# Altium footprint library INDUCTOR.PcbLib: 5 footprints
Each footprint in its own frame and in the unit in brackets; x right, y up, seen from the top. Pads: shape width x height; smd on the part's side, far side on the other; paste and mask are expansions set on the pad; w line width, h text height; cw(c..) or ccw(c..) is an arc to the next point about the centre after c.
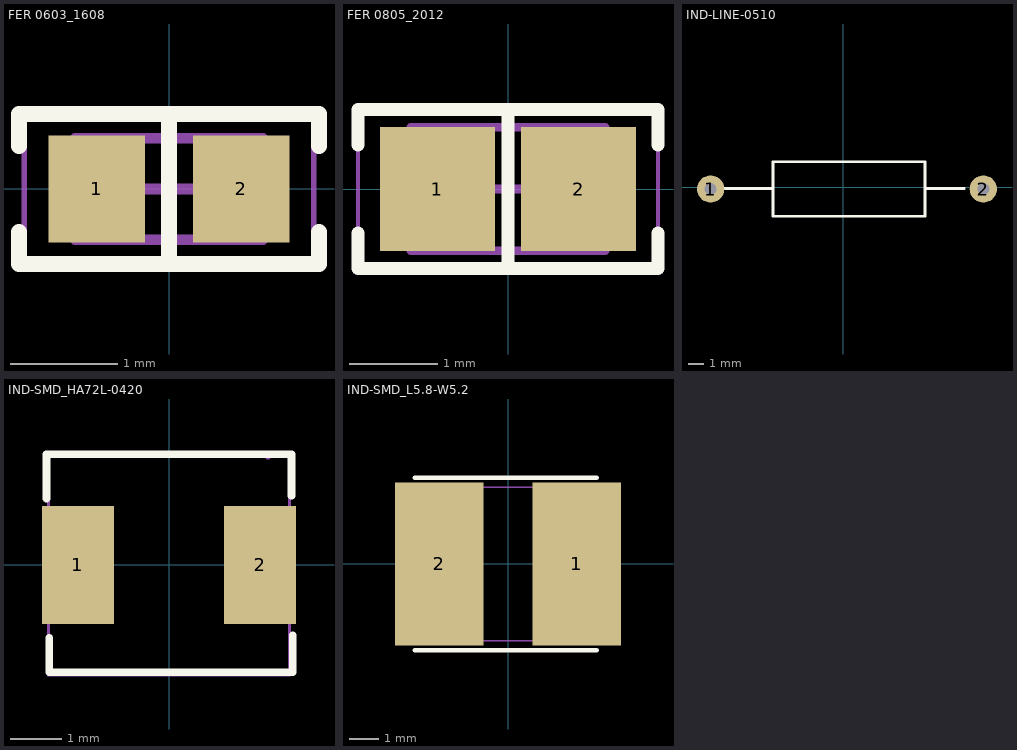
[diagram p0: the footprints below, top view; thin cyan lines are the x and y axes]

## FER 0603_1608 [mm] "Chip Ferrite, 2-Leads, Body 1.60x0.80mm, IPC Medium Density"
height 0.89
pads (2):
  rect 0.9x1 smd: 1(-0.675,0) 2(0.675,0)
Top Overlay:
  lines w0.15: -1.4,-0.4 -1.4,-0.7 1.4,-0.7 1.4,-0.4 ; -1.4,0.4 -1.4,0.7 1.4,0.7 1.4,0.4 ; 0,-0.7 0,0.7
Mechanical 13:
  lines w0.1: -0.875,-0.475 -0.875,0.475 0.875,0.475 0.875,-0.475 -0.875,-0.475
Mechanical 15:
  lines w0.05: -1.35,-0.75 -1.35,0.75 1.35,0.75 1.35,-0.75 -1.35,-0.75
  lines w0.1: -0.475,0 0.475,0 ; 0,-0.475 0,0.475
Mechanical 29:
  text "'.Designator'" at -1.424,-0.216 h0.5
3D body "FER 0603.STEP": height 0.82, standoff 0, extent -0.8,-0.412 0.8,0.412

## FER 0805_2012 [mm] "Chip Ferrite, 2-Leads, Body 2.00x1.20mm, IPC Medium Density"
height 1.15
pads (2):
  rect 1.3x1.4 smd: 1(-0.8,0) 2(0.8,0)
Top Overlay:
  lines w0.15: -1.7,-0.5 -1.7,-0.9 1.7,-0.9 1.7,-0.5 ; -1.7,0.5 -1.7,0.9 1.7,0.9 1.7,0.5 ; 0,-0.9 0,0.9
Mechanical 13:
  lines w0.1: -1.1,-0.7 1.1,-0.7 1.1,0.7 -1.1,0.7 -1.1,-0.7
Mechanical 15:
  lines w0.05: -1.7,-0.95 1.7,-0.95 1.7,0.95 -1.7,0.95 -1.7,-0.95
  lines w0.1: -0.5,0 0.5,0 ; 0,-0.5 0,0.5
Mechanical 29:
  text "'.Designator'" at -1.526,-0.14 h0.5
3D body "FER 0805.STEP": height 1.26, standoff -0.02, extent -1,-0.637 1,0.637

## IND-LINE-0510 [mil]
height 100
pads (2):
  round 70 hole 31: 1(-340,-5) 2(360,-5)
Top Overlay:
  lines w7: -313,-4 -180,-4 ; 210,-4 311,-4 ; -180,-75 210,-75 210,65 -180,65 -180,-75
Mechanical 29:
  text "'.Designator'" at -204,-18.01 h60
3D body "SW3dPS-Resistor 5-band.STEP": height 142, standoff -125, extent -335.74,-70 365.75,62

## IND-SMD_HA72L-0420 [mm]
pads (2):
  rect 1.4x2.3 smd: 1(-1.775,0) 2(1.775,0)
Top Overlay:
  lines w0.152: -2.388,1.295 -2.388,2.159 2.388,2.159 2.388,1.346 ; -2.337,-1.422 -2.337,-2.095 2.413,-2.095 2.413,-1.816 2.413,-1.372
Mechanical 15:
  region: -1.562,-0.775 -1.562,0.725 -2.362,0.725 -2.362,-0.775
  region: 1.499,-0.75 1.499,0.75 2.299,0.75 2.299,-0.75
  region: 1.99,2.124 1.99,2.1 1.955,2.064 1.906,2.064 1.87,2.1 1.87,2.124 1.87,2.149 1.906,2.184 1.955,2.184 1.99,2.149
  lines w0.051: -2.35,-2.15 2.35,-2.15 2.35,2.15 -2.35,2.15 -2.35,-2.15
Mechanical 29:
  text "'.Designator'" at -2.515,-0.584 h1.52
3D body "ha72l-0420xxlf.stp": height 1.95, standoff 0, extent -2.199,-1.999 2.251,2.051

## IND-SMD_L5.8-W5.2 [mm]
pads (2):
  rect 3x5.5 smd paste-100 mask+0.05: 1(2.325,0) 2(-2.325,0)
Top Overlay:
  lines w0.152: -3.15,-2.921 3.002,-2.921 ; -3.15,2.921 3.002,2.921
Top Paste:
  region: 2.998,2.6 2.998,-2.6 0.798,-2.6 0.798,2.6
  region: -2.947,-2.6 -2.947,2.6 -0.747,2.6 -0.747,-2.6
Mechanical 15:
  region: -0.875,-2.6 -1.475,-2.6 -1.975,-2.2 -2.375,-1.7 -2.775,-0.9 -2.875,0 -2.775,0.9 -2.375,1.7 -2.075,2.1 -1.475,2.6 -0.875,2.6
  region: 0.925,2.6 1.525,2.6 2.025,2.2 2.425,1.7 2.825,0.9 2.925,0 2.825,-0.9 2.425,-1.7 2.125,-2.1 1.525,-2.6 0.925,-2.6
  region: 2.985,-2.6 2.985,-2.625 2.95,-2.66 2.9,-2.66 2.865,-2.625 2.865,-2.6 2.865,-2.575 2.9,-2.54 2.95,-2.54 2.985,-2.575
  lines w0.051: -2.875,0 -2.775,0.9 -2.375,1.7 -2.075,2.1 -1.475,2.6 1.525,2.6 2.025,2.2 2.425,1.7 2.825,0.9 2.925,0 2.825,-0.9 2.425,-1.7 2.025,-2.2 1.525,-2.6 -1.475,-2.6 -1.975,-2.2 -2.375,-1.7 -2.775,-0.9 -2.875,0
Mechanical 29:
  text "'.Designator'" at -3.658,-0.661 h1.52
3D body "User Library-FPI0504 (5_8 x 5_2 x 4_5).STEP": height 4.5, standoff 0, extent -2.9,-2.616 2.9,2.584